# Altium integrated library Rapidstrike Mod Components Lib.IntLib: 11 symbols
Pins are listed as number, name and electrical type; pins without a type are passive.

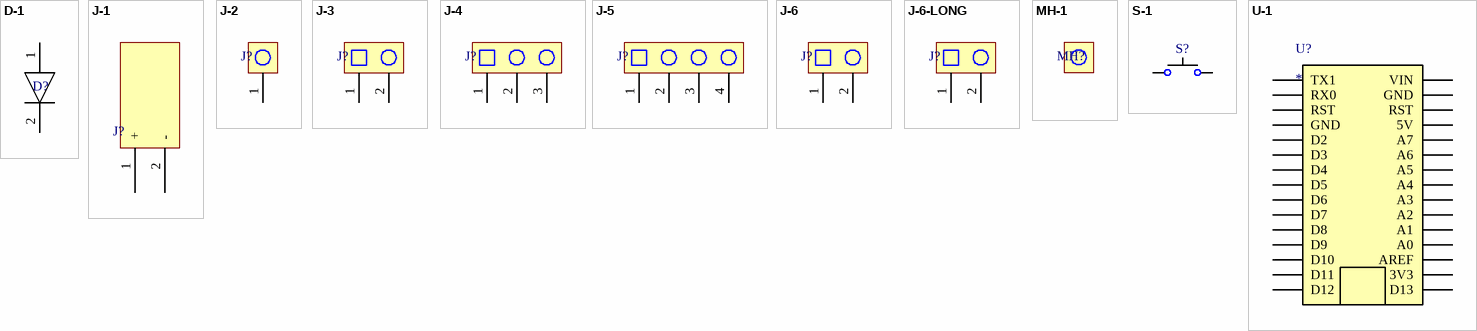
[diagram p0: symbols D-1 to U-1]

## D-1
designator D?
Diode Thru-Hole 0.5"; Supplier 1: Mouser; Supplier Part Number 1: 625-5KP60A-E3
footprint D-1
pins: 1 +, 2 -

## J-1
designator J?
Screwless terminal 2 pin 32A; Supplier 1: RSComponents; Supplier Part Number 1: 1753905
footprint J-1 (Screwless terminal 2 pin 32A)
pins: 1 +, 2 -

## J-2
designator J?
1 pin Thru-Hole AWG 24
footprint J-2 (1 pin Thru-Hole AWG 24)
pins: 1

## J-3
designator J?
2 pin Thru-Hole AWG 24
footprint J-3 (2 pin Thru-Hole AWG 24)
pins: 1, 2

## J-4
designator J?
3 pin Thru-Hole AWG 24
footprint J-4 (3 pin Thru-Hole AWG 24)
pins: 1, 2, 3

## J-5
designator J?
4 pin Thru-Hole AWG 24
footprint J-5 (4 pin Thru-Hole AWG 24)
pins: 1, 2, 3, 4

## J-6
designator J?
2 pin Thru-Hole AWG 16
footprint J-6 (16)
pins: 1, 2

## J-6-LONG
designator J?
2 pin Thru-Hole AWG 16 Larger Spacing
footprint J-6-LONG (2 pin Thru-Hole AWG 16 Larger Spacing)
pins: 1, 2

## MH-1
designator MH?
Mouting Hole M2.5
footprint MH-1 (Mounting Hole M2.5)

## S-1
designator S?
1A Microswitch
footprint J-3 (2 pin Thru-Hole AWG 24)
pins: 1, 2

## U-1
designator U?
Arduino Nano Every, SMD Footprint
footprint ARDUINO_NANO (Casselated pads for the Arduino Nano Every)
pins: 1 TX1, 2 RX0, 3 RST, 4 GND, 5 D2, 6 D3, 7 D4, 8 D5, 9 D6, 10 D7, 11 D8, 12 D9, 13 D10, 14 D11, 15 D12, 16 D13, 17 3V3, 18 AREF, 19 A0, 20 A1, 21 A2, 22 A3, 23 A4, 24 A5, 25 A6, 26 A7, 27 5V, 28 RST, 29 GND, 30 VIN